# EAGLE library part PIC16LF1786 (library ecad)
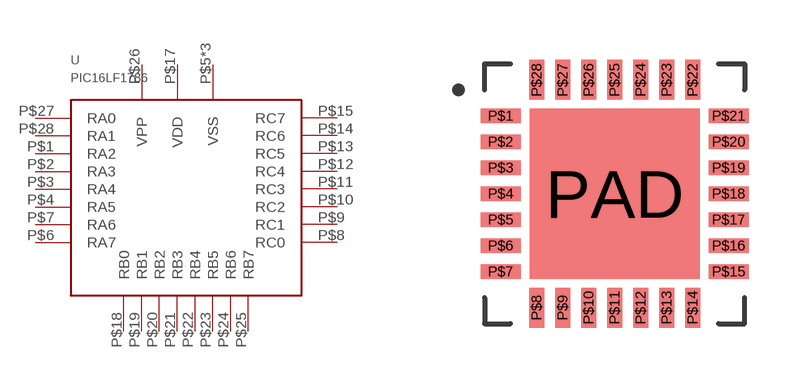
[diagram p0: symbol with the pads of 28-QFN; footprint 28-QFN]

Designator prefix -

## PIC16LF1786  [28-QFN]
P$1  RA2
P$2  RA3
P$3  RA4
P$4  RA5
P$5  VSS
P$6  RA7
P$7  RA6
P$8  RC0
P$9  RC1
P$10  RC2
P$11  RC3
P$12  RC4
P$13  RC5
P$14  RC6
P$15  RC7
P$16  VSS
P$17  VDD
P$18  RB0
P$19  RB1
P$20  RB2
P$21  RB3
P$22  RB4
P$23  RB5
P$24  RB6
P$25  RB7
P$26  VPP
P$27  RA0
P$28  RA1
PAD  VSS

## Footprint 28-QFN (pad centres in mm)
smd 1 x 0.37: P$1 -2.85,1.95; P$2 -2.85,1.3; P$3 -2.85,0.65; P$4 -2.85,0; P$5 -2.85,-0.65; P$6 -2.85,-1.3; P$7 -2.85,-1.95; P$15 2.85,-1.95; P$16 2.85,-1.3; P$17 2.85,-0.65; P$18 2.85,0; P$19 2.85,0.65; P$20 2.85,1.3; P$21 2.85,1.95
smd 0.37 x 1: P$8 -1.95,-2.85; P$9 -1.3,-2.85; P$10 -0.65,-2.85; P$11 0,-2.85; P$12 0.65,-2.85; P$13 1.3,-2.85; P$14 1.95,-2.85; P$22 1.95,2.85; P$23 1.3,2.85; P$24 0.65,2.85; P$25 0,2.85; P$26 -0.65,2.85; P$27 -1.3,2.85; P$28 -1.95,2.85
smd 4.25 x 4.25: PAD 0,0